# Altium footprint library DDR5_Nucleo_Shield_Footprints.PcbLib: 41 footprints (part 1 of 3)
Each footprint in its own frame and in the unit in brackets; x right, y up, seen from the top. Pads: shape width x height; smd on the part's side, far side on the other; paste and mask are expansions set on the pad; w line width, h text height; cw(c..) or ccw(c..) is an arc to the next point about the centre after c.
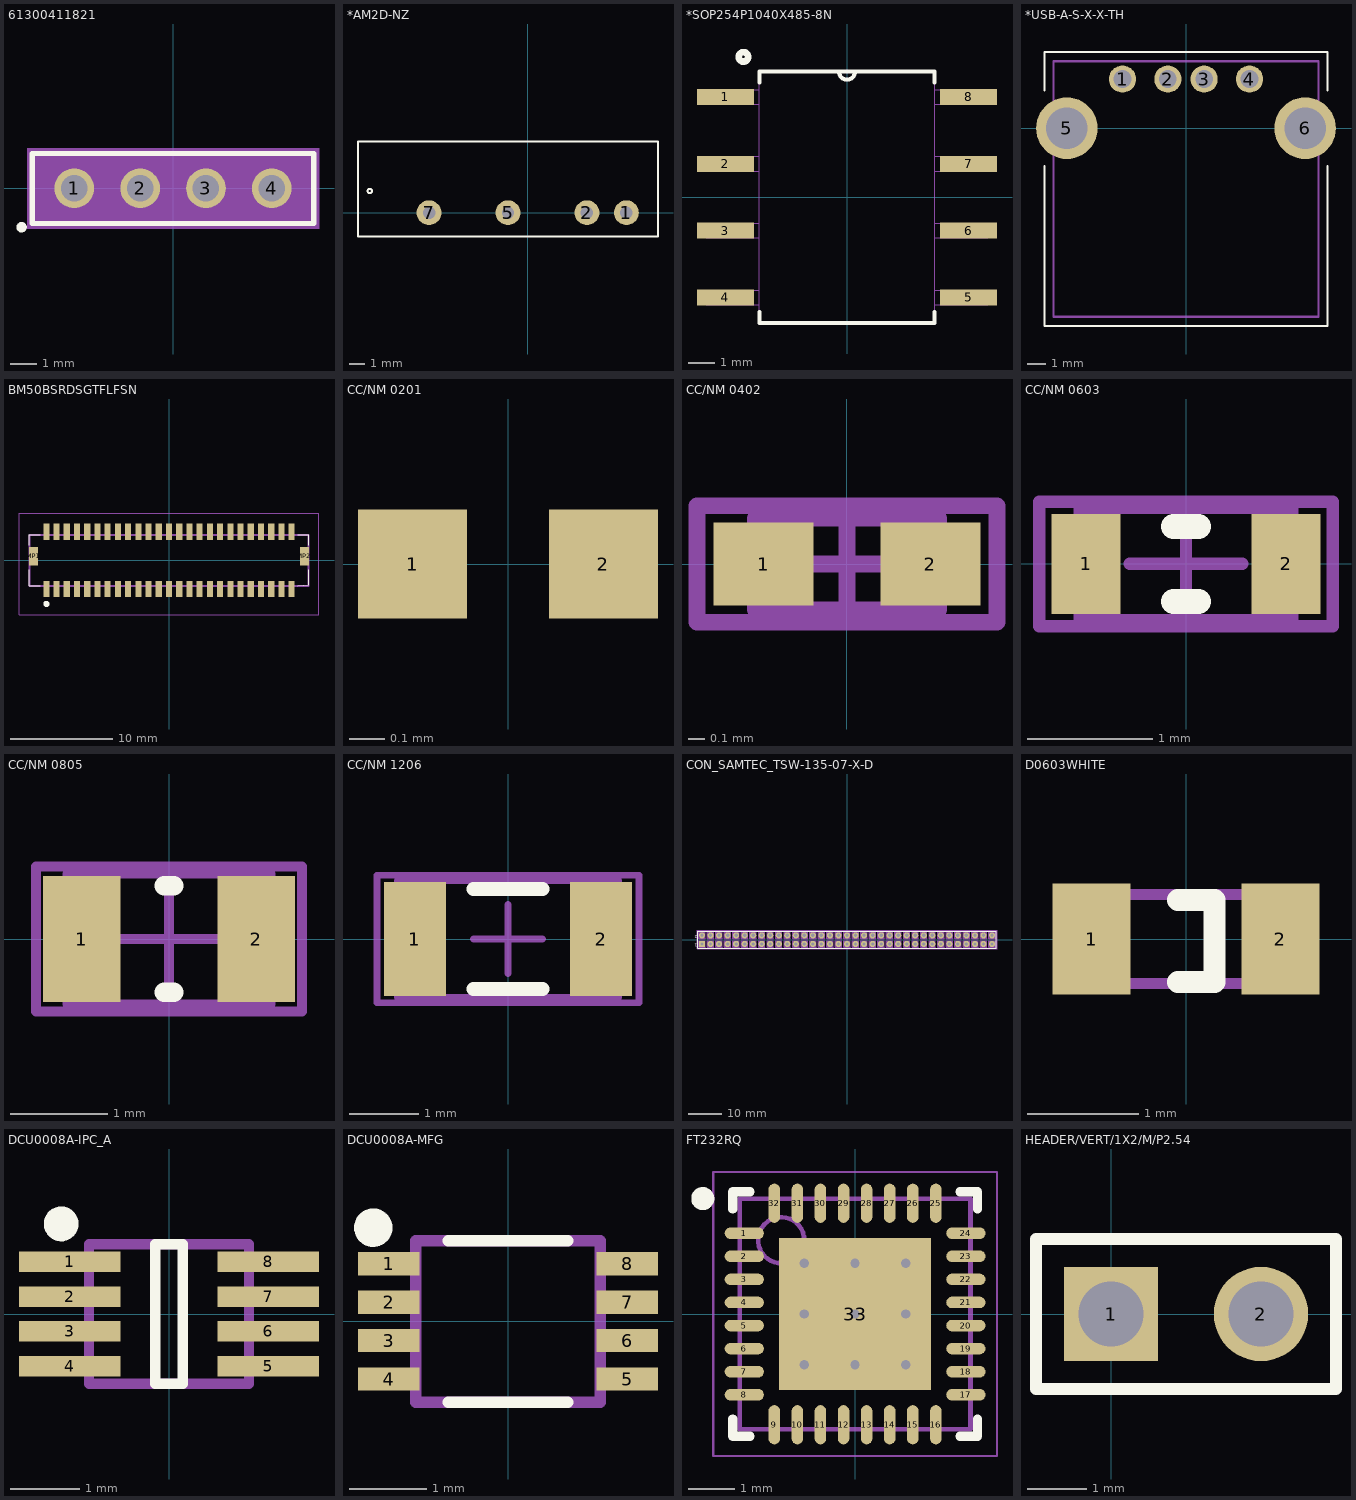
[diagram p0: the footprints below, top view; thin cyan lines are the x and y axes]

## 61300411821 [mm]
pads (4):
  round 1.53 hole 1.02: 1(-3.81,0) 2(-1.27,0) 3(1.27,0) 4(3.81,0)
Top Overlay:
  circle w0.2: c-5.84,-1.5 r0.1
  lines w0.2: -5.43,-1.35 -5.43,1.35 5.43,1.35 5.43,-1.35 -5.43,-1.35
Mechanical 13:
  lines w0.1: -5.33,-1.25 -5.33,1.25 5.33,1.25 5.33,-1.25 -5.33,-1.25
Mechanical 15:
  region: 5.63,-1.55 -5.63,-1.55 -5.63,1.55 5.63,1.55
3D body "61300411821+%28rev1%29.stp": height 8.57, standoff -3.03, extent -5.33,-1.25 5.33,1.25

## *AM2D-NZ [mm]
pads (4):
  round 1.6 hole 0.8: 1(6.35,0) 2(3.81,0) 5(-1.27,0) 7(-6.35,0)
Top Overlay:
  circle w0.127: c-10.16,1.397 r0.141
  lines w0.127: -10.922,-1.524 8.382,-1.524 8.382,4.572 -10.922,4.572 -10.922,-1.524
3D body "User Library-SIP-4(7)_A6.STEP": height 1.75, standoff -10.66, extent -10.971,-1.473 8.329,4.617

## *SOP254P1040X485-8N [mil]
pads (8):
  rect 85x24 smd: 1(-182,150) 2(-182,50) 3(-182,-50) 4(-182,-150) 5(182,-150) 6(182,-50) 7(182,50) 8(182,150)
Top Overlay:
  circle w10: c-155,210 r7.07
  lines w6: -131,-172 -131,-188 131,-188 131,-172 ; -131,172 -131,188 -12,188 ; 131,172 131,188 12,188 ; -12,188 ccw(c0,188) 12,188 ; -12,188 12,188
Mechanical 4:
  lines w0: -211,-161 -131,-161 ; -211,-161 -211,-139 ; -211,-161 -131,-161 ; -211,-161 -211,-139 ; -211,-139 -131,-139 ; -211,-139 -131,-139 ; -211,-61 -131,-61 ; -211,-61 -211,-39 ; -211,-61 -131,-61 ; -211,-61 -211,-39 ; -211,-39 -131,-39 ; -211,-39 -131,-39 ; -211,39 -131,39 ; -211,39 -211,61 ; -211,39 -131,39 ; -211,39 -211,61 ; -211,61 -131,61 ; -211,61 -131,61 ; -211,139 -131,139 ; -211,139 -211,161 ; -211,139 -131,139 ; -211,139 -211,161 ; -211,161 -131,161 ; -211,161 -131,161 ; -131,-188 -131,188 ; -131,-188 131,-188 ; -131,-188 -131,188 ; -131,-188 131,-188 ; -131,-161 -131,-139 ; -131,-161 -131,-139 ; -131,-61 -131,-39 ; -131,-61 -131,-39 ; -131,39 -131,61 ; -131,39 -131,61 ; -131,139 -131,161 ; -131,139 -131,161 ; -131,188 -12,188 ; -131,188 -12,188 ; -12,188 ccw(c0,188) 12,188 ; -12,188 ccw(c0,188) 12,188 ; -12,188 12,188 ; -12,188 12,188 ; 12,188 131,188 ; 12,188 131,188 ; 131,-188 131,188 ; 131,-188 131,188 ; 131,-161 211,-161 ; 131,-161 131,-139 ; 131,-161 211,-161 ; 131,-161 131,-139 ; 131,-139 211,-139 ; 131,-139 211,-139 ; 131,-61 211,-61 ; 131,-61 131,-39 ; 131,-61 211,-61 ; 131,-61 131,-39 ; 131,-39 211,-39 ; 131,-39 211,-39 ; 131,39 211,39 ; 131,39 131,61 ; 131,39 211,39 ; 131,39 131,61 ; 131,61 211,61 ; 131,61 211,61 ; 131,139 211,139 ; 131,139 131,161 ; 131,139 211,139 ; 131,139 131,161 ; 131,161 211,161 ; 131,161 211,161 ; 211,-161 211,-139 ; 211,-161 211,-139 ; 211,-61 211,-39 ; 211,-61 211,-39 ; 211,39 211,61 ; 211,39 211,61 ; 211,139 211,161 ; 211,139 211,161
3D body "DUB0008A.stp": height 144.88, standoff 0, extent -205.1,-180.12 205.11,180.12

## *USB-A-S-X-X-TH [mm]
pads (6):
  round 1.5 hole 0.98: 1(-3.5,2.71) 2(-1,2.71) 3(1,2.71) 4(3.5,2.71)
  round 3.4 hole 2.29: 5(-6.57,0) 6(6.57,0)
Top Overlay:
  lines w0.127: -7.8,-2.08 -7.8,-10.9 7.8,-10.9 7.8,-2.08 ; -7.8,2.08 -7.8,4.2 7.8,4.2 7.8,2.08
Mechanical 4:
  lines w0.127: -7.3,-10.4 7.3,-10.4 ; -7.3,-10.4 -7.3,3.7 ; -7.3,-10.4 7.3,-10.4 ; -7.3,-10.4 -7.3,3.7 ; -7.3,3.7 7.3,3.7 ; -7.3,3.7 7.3,3.7 ; 7.3,-10.4 7.3,3.7 ; 7.3,-10.4 7.3,3.7
3D body "ACC-M-LUSB-A111-00-REVT3.X_B": height 11.63, standoff -4.01, extent -7.85,-11.775 7.85,7.209

## BM50BSRDSGTFLFSN [mm]
pads (52):
  rect 0.6x1.6 smd: 1(-12,-2.8) 2(-12,2.8) 3(-11,-2.8) 4(-11,2.8) 5(-10,-2.8) 6(-10,2.8) 7(-9,-2.8) 8(-9,2.8) 9(-8,-2.8) 10(-8,2.8) 11(-7,-2.8) 12(-7,2.8) 13(-6,-2.8) 14(-6,2.8) 15(-5,-2.8) 16(-5,2.8) 17(-4,-2.8) 18(-4,2.8) 19(-3,-2.8) 20(-3,2.8) 21(-2,-2.8) 22(-2,2.8) 23(-1,-2.8) 24(-1,2.8) 25(0,-2.8) 26(0,2.8) 27(1,-2.8) 28(1,2.8) 29(2,-2.8) 30(2,2.8) 31(3,-2.8) 32(3,2.8) 33(4,-2.8) 34(4,2.8) 35(5,-2.8) 36(5,2.8) 37(6,-2.8) 38(6,2.8) 39(7,-2.8) 40(7,2.8) 41(8,-2.8) 42(8,2.8) 43(9,-2.8) 44(9,2.8) 45(10,-2.8) 46(10,2.8) 47(11,-2.8) 48(11,2.8) 49(12,-2.8) 50(12,2.8)
  rect 0.85x1.8 smd: MP1(-13.25,0.4) MP2(13.25,0.4)
Top Overlay:
  lines w0.1: -13.65,-0.9 -13.65,-2.5 -12.6,-2.5 ; -13.65,1.5 -13.65,2.5 -12.6,2.5 ; 12.6,-2.5 13.65,-2.4 13.65,-0.9 ; 12.6,2.5 13.65,2.5 13.65,1.5
  lines w0.5: -12,-4.3 ccw(c-12,-4.25) -12,-4.2 ccw(c-12,-4.25) -12,-4.3
Mechanical 15:
  lines w0.2: -13.65,-2.5 -13.65,2.5 13.65,2.5 13.65,-2.5 -13.65,-2.5
Mechanical 20:
  lines w0.1: -14.675,-5.3 -14.675,4.6 14.675,4.6 14.675,-5.3 -14.675,-5.3
3D body "BM50B-SRDS-G-TF_LF__SN_.stp": height 4.35, standoff 0, extent -13.65,-3.667 13.65,3.413

## CC/NM 0201 [mil] "hip Capacitor, 2-Leads, Body 0.6x0.3mm, IPC High Density"
height 11.81
pads (2):
  rect 12x12 smd: 1(-10.51,0) 2(10.51,0)
3D body "User Library-cap_0201.STEP": height 11.81, standoff 0, extent -12.32,-5.9 11.3,5.91

## CC/NM 0402 [mm] "Chip Capacitor, 2-Leads, Body 1,0x0,5mm, IPC High Density"
height 0.4
pads (2):
  rect 0.6x0.5 smd: 1(-0.5,0) 2(0.5,0)
Mechanical 8:
  lines w0.1: -0.55,-0.275 -0.55,0.275 0.55,0.275 0.55,-0.275 -0.55,-0.275
Mechanical 15:
  lines w0.1: -0.275,0 0.275,0 ; 0,-0.275 0,0.275 ; -0.9,-0.35 -0.9,0.35 0.9,0.35 0.9,-0.35 -0.9,-0.35
3D body "0402 SMD Capacitor.step": height 0.2, standoff 0, extent -0.5,-0.305 0.5,0.295

## CC/NM 0603 [mm] "Chip Capacitor, 2-Leads, Body 1,6x0,8mm, IPC High Density"
height 0.55
pads (2):
  rect 0.55x0.8 smd: 1(-0.8,0) 2(0.8,0)
Top Overlay:
  lines w0.2: -0.1,-0.3 0.1,-0.3 ; -0.1,0.3 0.1,0.3
Mechanical 8:
  lines w0.1: -0.85,-0.45 0.85,-0.45 0.85,0.45 -0.85,0.45 -0.85,-0.45
Mechanical 15:
  lines w0.1: -0.45,0 0.45,0 ; 0,-0.45 0,0.45 ; -1.175,-0.5 1.175,-0.5 1.175,0.5 -1.175,0.5 -1.175,-0.5
3D body "0603 SMD Capacitor.step": height 0.3, standoff 0, extent -0.8,-0.406 0.8,0.394

## CC/NM 0805 [mm] "Chip Capacitor, 2-Leads, Body 2,0x1,3mm, IPC High Density"
height 0.6
pads (2):
  rect 0.8x1.3 smd mask+0: 1(-0.9,0) 2(0.9,0)
Top Overlay:
  lines w0.2: -0.05,-0.55 0.05,-0.55 ; -0.05,0.55 0.05,0.55
Mechanical 8:
  lines w0.1: -1.05,-0.675 -1.05,0.675 1.05,0.675 1.05,-0.675 -1.05,-0.675
Mechanical 15:
  lines w0.1: -0.5,0 0.5,0 ; 0,-0.5 0,0.5 ; -1.375,-0.75 -1.375,0.75 1.375,0.75 1.375,-0.75 -1.375,-0.75
3D body "0805 SMD Capacitor.step": height 0.78, standoff 0, extent -1.009,-0.625 0.991,0.625

## CC/NM 1206 [mm] "Chip Capacitor, 2-Leads, Body 3,1x1,6mm, IPC High Density"
height 0.65
pads (2):
  rect 0.9x1.65 smd: 1(-1.35,0) 2(1.35,0)
Top Overlay:
  lines w0.2: -0.5,-0.725 0.5,-0.725 ; -0.5,0.725 0.5,0.725
Mechanical 8:
  lines w0.1: -1.6,-0.85 -1.6,0.85 1.6,0.85 1.6,-0.85 -1.6,-0.85
Mechanical 15:
  lines w0.1: -0.5,0 0.5,0 ; 0,-0.5 0,0.5 ; -1.9,-0.925 -1.9,0.925 1.9,0.925 1.9,-0.925 -1.9,-0.925
3D body "1206 SMD Capacitor.step": height 1, standoff 0, extent -1.6,-0.8 1.6,0.8

## CON_SAMTEC_TSW-135-07-X-D [mm]
height 8.38
pads (70):
  rect 1.85x1.85 / inner round 1.85 / far side rect 1.85x1.85 hole 1 mask+0.05: 1(-43.18,-1.27)
  round 1.85 hole 1 mask+0.05: 2(-43.18,1.27) 3(-40.64,-1.27) 4(-40.64,1.27) 5(-38.1,-1.27) 6(-38.1,1.27) 7(-35.56,-1.27) 8(-35.56,1.27) 9(-33.02,-1.27) 10(-33.02,1.27) 11(-30.48,-1.27) 12(-30.48,1.27) 13(-27.94,-1.27) 14(-27.94,1.27) 15(-25.4,-1.27) 16(-25.4,1.27) 17(-22.86,-1.27) 18(-22.86,1.27) 19(-20.32,-1.27) 20(-20.32,1.27) 21(-17.78,-1.27) 22(-17.78,1.27) 23(-15.24,-1.27) 24(-15.24,1.27) 25(-12.7,-1.27) 26(-12.7,1.27) 27(-10.16,-1.27) 28(-10.16,1.27) 29(-7.62,-1.27) 30(-7.62,1.27) 31(-5.08,-1.27) 32(-5.08,1.27) 33(-2.54,-1.27) 34(-2.54,1.27) 35(0,-1.27) 36(0,1.27) 37(2.54,-1.27) 38(2.54,1.27) 39(5.08,-1.27) 40(5.08,1.27) 41(7.62,-1.27) 42(7.62,1.27) 43(10.16,-1.27) 44(10.16,1.27) 45(12.7,-1.27) 46(12.7,1.27) 47(15.24,-1.27) 48(15.24,1.27) 49(17.78,-1.27) 50(17.78,1.27) 51(20.32,-1.27) 52(20.32,1.27) 53(22.86,-1.27) 54(22.86,1.27) 55(25.4,-1.27) 56(25.4,1.27) 57(27.94,-1.27) 58(27.94,1.27) 59(30.48,-1.27) 60(30.48,1.27) 61(33.02,-1.27) 62(33.02,1.27) 63(35.56,-1.27) 64(35.56,1.27) 65(38.1,-1.27) 66(38.1,1.27) 67(40.64,-1.27) 68(40.64,1.27) 69(43.18,-1.27) 70(43.18,1.27)
Top Overlay:
  lines w0.12: -44.45,-2.54 -44.45,2.54 44.45,2.54 44.45,-2.54 -44.45,-2.54
  text "2" at -44.631,1.649 h1.5
  text "1" at -44.606,-0.951 h1.5
Mechanical 14:
  drawing of 844 lines, arcs and shapes, not listed
  text "69" at 42.485,-1.725 h1.5
  text "70" at 42.51,0.825 h1.5
  text "2" at -43.495,0.85 h1.5
  text "1" at -43.395,-1.75 h1.5
  text "'.Designator'" at -0.681,0.874 h0.75
Mechanical 16:
  lines w0.01: -44.67,-2.75 44.67,-2.75 44.67,2.75 -44.67,2.75 -44.67,-2.75
3D body: height 8.38, standoff 0, extent -44.455,-2.545 44.45,2.545
3D body "TSW-135-07-G-D.stp": height 8.38, standoff -2.54, extent -44.45,-2.54 44.45,2.54

## D0603WHITE [mm]
height 0.8
pads (2):
  rect 0.7x1 smd: 1(-0.85,0) 2(0.85,0)
Top Overlay:
  lines w0.2: -0.071,-0.386 0.256,-0.386 0.256,0.35 -0.071,0.35
Mechanical 8:
  lines w0.1: -0.8,-0.4 0.8,-0.4 0.8,0.4 -0.8,0.4 -0.8,-0.4
3D body "LED SMD0603WHITE.STEP": height 0.68, standoff 0, extent -0.851,-0.369 0.8,0.356

## DCU0008A-IPC_A [mm]
pads (8):
  rect 1.46x0.297 smd paste+0 mask+0: 1(-1.426,0.75) 2(-1.426,0.25) 3(-1.426,-0.25) 4(-1.426,-0.75) 5(1.426,-0.75) 6(1.426,-0.25) 7(1.426,0.25) 8(1.426,0.75)
Top Overlay:
  circle w0.25: c-1.549,1.295 r0.125
  lines w0.15: -0.196,-1 -0.196,1 0.196,1 0.196,-1 -0.196,-1
Mechanical 13:
  lines w0.15: -1.15,-1 -1.15,1 1.15,1 1.15,-1 -1.15,-1

## DCU0008A-MFG [mm]
pads (8):
  rect 0.8x0.3 smd paste-0.387 mask+0: 1(-1.55,0.75) 2(-1.55,0.25) 3(-1.55,-0.25) 4(-1.55,-0.75) 5(1.55,-0.75) 6(1.55,-0.25) 7(1.55,0.25) 8(1.55,0.75)
Top Overlay:
  circle w0.25: c-1.753,1.219 r0.125
  lines w0.15: -0.775,-1.05 0.775,-1.05 ; -0.775,1.05 0.775,1.05
Top Paste:
  region: 1.175,-0.675 1.225,-0.625 1.875,-0.625 1.925,-0.675 1.925,-0.825 1.875,-0.875 1.225,-0.875 1.175,-0.825
  region: 1.225,-0.125 1.875,-0.125 1.925,-0.175 1.925,-0.325 1.875,-0.375 1.225,-0.375 1.175,-0.325 1.175,-0.175
  region: 1.225,0.125 1.175,0.175 1.175,0.325 1.225,0.375 1.875,0.375 1.925,0.325 1.925,0.175 1.875,0.125
  region: 1.925,0.675 1.875,0.625 1.225,0.625 1.175,0.675 1.175,0.825 1.225,0.875 1.875,0.875 1.925,0.825
  region: -1.925,-0.675 -1.875,-0.625 -1.225,-0.625 -1.175,-0.675 -1.175,-0.825 -1.225,-0.875 -1.875,-0.875 -1.925,-0.825
  region: -1.925,-0.325 -1.925,-0.175 -1.875,-0.125 -1.225,-0.125 -1.175,-0.175 -1.175,-0.325 -1.225,-0.375 -1.875,-0.375
  region: -1.225,0.125 -1.875,0.125 -1.925,0.175 -1.925,0.325 -1.875,0.375 -1.225,0.375 -1.175,0.325 -1.175,0.175
  region: -1.875,0.625 -1.925,0.675 -1.925,0.825 -1.875,0.875 -1.225,0.875 -1.175,0.825 -1.175,0.675 -1.225,0.625
Mechanical 13:
  lines w0.15: -1.2,-1.05 -1.2,1.05 1.2,1.05 1.2,-1.05 -1.2,-1.05
3D body "DCU0008A.stp": height 0.77, standoff 0, extent -1.448,-1 1.652,1

## FT232RQ [mm] "QFN, 32-Leads, Body 5,00x5,00mm, Pitch 0,50mm, Thermal Pad 3,30x3,30mm, IPC Medium Density"
height 0.9
pads (33):
  oval 0.85x0.25 smd: 1(-2.4,1.75) 2(-2.4,1.25) 3(-2.4,0.75) 4(-2.4,0.25) 5(-2.4,-0.25) 6(-2.4,-0.75) 7(-2.4,-1.25) 8(-2.4,-1.75) 17(2.4,-1.75) 18(2.4,-1.25) 19(2.4,-0.75) 20(2.4,-0.25) 21(2.4,0.25) 22(2.4,0.75) 23(2.4,1.25) 24(2.4,1.75)
  oval 0.25x0.85 smd: 9(-1.75,-2.4) 10(-1.25,-2.4) 11(-0.75,-2.4) 12(-0.25,-2.4) 13(0.25,-2.4) 14(0.75,-2.4) 15(1.25,-2.4) 16(1.75,-2.4) 25(1.75,2.4) 26(1.25,2.4) 27(0.75,2.4) 28(0.25,2.4) 29(-0.25,2.4) 30(-0.75,2.4) 31(-1.25,2.4) 32(-1.75,2.4)
  rect 3.3x3.3 smd: 33(0,0)
via -1.1,1.1 diameter 0.5 hole 0.2
via 0,1.1 diameter 0.5 hole 0.2
via 1.1,1.1 diameter 0.5 hole 0.2
via -1.1,0 diameter 0.5 hole 0.2
via 0,0 diameter 0.5 hole 0.2
via 1.1,0 diameter 0.5 hole 0.2
via -1.1,-1.1 diameter 0.5 hole 0.2
via 0,-1.1 diameter 0.5 hole 0.2
via 1.1,-1.1 diameter 0.5 hole 0.2
Top Overlay:
  circle w0.25: c-3.3,2.5 r0.125
  lines w0.2: -2.65,-2.275 -2.65,-2.65 -2.275,-2.65 ; -2.65,2.275 -2.65,2.65 -2.275,2.65 ; 2.275,-2.65 2.65,-2.65 2.65,-2.275 ; 2.275,2.65 2.65,2.65 2.65,2.275
Mechanical 13:
  circle w0.1: c-1.6,1.6 r0.5
  lines w0.1: -2.5,-2.5 -2.5,2.5 2.5,2.5 2.5,-2.5 -2.5,-2.5
Mechanical 15:
  lines w0.05: -3.075,-3.075 -3.075,3.075 3.075,3.075 3.075,-3.075 -3.075,-3.075
  lines w0.1: -0.5,0 0.5,0 ; 0,-0.5 0,0.5
3D body "QFN50P500X500X90_HS-33N.step": height 0.9, standoff 0, extent -2.501,-2.501 2.501,2.501

## HEADER/VERT/1X2/M/P2.54 [mm] "Connector; Header; Pitch 2.54mm; 2 Position Male"
height 8.54
pads (2):
  rect 1.6x1.6 hole 1.1: 1(0,0)
  round 1.6 hole 1.1: 2(2.54,0)
Top Overlay:
  lines w0.2: -1.27,-1.27 3.81,-1.27 3.81,1.27 -1.27,1.27 -1.27,-1.27
3D body "1 way 61300111121.stp": height 8.67, standoff -2.87, extent -1.27,-1.27 1.27,1.27
3D body "1 way 61300111121.stp": height 8.67, standoff -2.87, extent 1.27,-1.27 3.81,1.27